# Altium footprint library header_shrouded.PcbLib: 2 footprints
Each footprint in its own frame and in the unit in brackets; x right, y up, seen from the top. Pads: shape width x height; smd on the part's side, far side on the other; paste and mask are expansions set on the pad; w line width, h text height; cw(c..) or ccw(c..) is an arc to the next point about the centre after c.
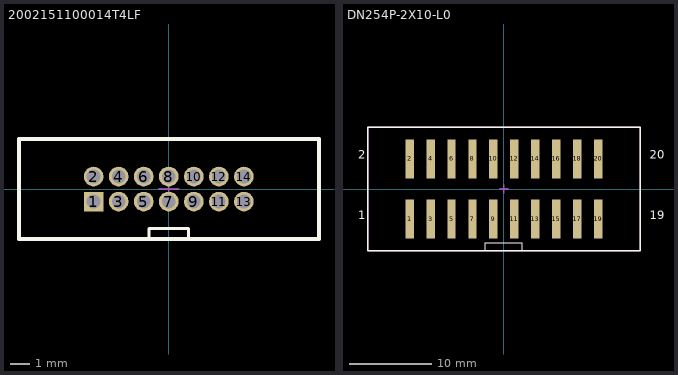
[diagram p0: the footprints below, top view; thin cyan lines are the x and y axes]

## 2002151100014T4LF [mm]
pads (14):
  rect 1x1 hole 0.7: 1(-3.81,-0.635)
  round 1 hole 0.7: 2(-3.81,0.635) 3(-2.54,-0.635) 4(-2.54,0.635) 5(-1.27,-0.635) 6(-1.27,0.635) 7(0,-0.635) 8(0,0.635) 9(1.27,-0.635) 10(1.27,0.635) 11(2.54,-0.635) 12(2.54,0.635) 13(3.81,-0.635) 14(3.81,0.635)
Top Overlay:
  lines w0.15: -1,-2.54 -1,-2 1,-2 1,-2.54
  lines w0.2: -7.595,-2.54 -7.595,2.55 7.62,2.55 7.62,-2.54 -7.595,-2.54
Top Courtyard:
  lines w0.1: -0.5,0 0.5,0 ; 0,-0.5 0,0.5
  lines w0.2: -7.595,-2.54 7.62,-2.54 7.62,2.55 -7.595,2.55 -7.595,-2.54
  text "'.Designator'" at -7.1,-2.1 h1
3D body "20021511-00014T4LF.stp": height 5.4, standoff -2.3, extent -7.57,-2.55 7.62,2.55

## DN254P-2X10-L0 [mm]
pads (20):
  rect 1.02x4.7 smd mask+0.2: 1(-11.43,-3.65) 2(-11.43,3.65) 3(-8.89,-3.65) 4(-8.89,3.65) 5(-6.35,-3.65) 6(-6.35,3.65) 7(-3.81,-3.65) 8(-3.81,3.65) 9(-1.27,-3.65) 10(-1.27,3.65) 11(1.27,-3.65) 12(1.27,3.65) 13(3.81,-3.65) 14(3.81,3.65) 15(6.35,-3.65) 16(6.35,3.65) 17(8.89,-3.65) 18(8.89,3.65) 19(11.43,-3.65) 20(11.43,3.65)
Top Overlay:
  lines w0.15: -2.25,-7.5 -2.25,-6.5 2.25,-6.5 2.25,-7.5
  lines w0.2: -16.525,-7.5 -16.525,7.5 16.525,7.5 16.525,-7.5 -16.525,-7.5
  text "2" at -17.7,3.65 h1
  text "1" at -17.7,-3.65 h1
  text "20" at 17.7,3.65 h1
  text "19" at 17.7,-3.65 h1
Top Courtyard:
  lines w0.2: -0.5,0 0.5,0 ; 0,-0.5 0,0.5 ; -16.525,-7.5 16.525,-7.5 16.525,7.5 -16.525,7.5 -16.525,-7.5
  text "'.Designator'" at -15.325,-0.514 h1.52
3D body "2x10_Header_Shrouded.stp": height 13.32, standoff -1.29, extent -16.256,-5.334 16.256,5.334